# Altium schematic symbol library WL-SMTW.SchLib: 56 symbols (part 2 of 2)
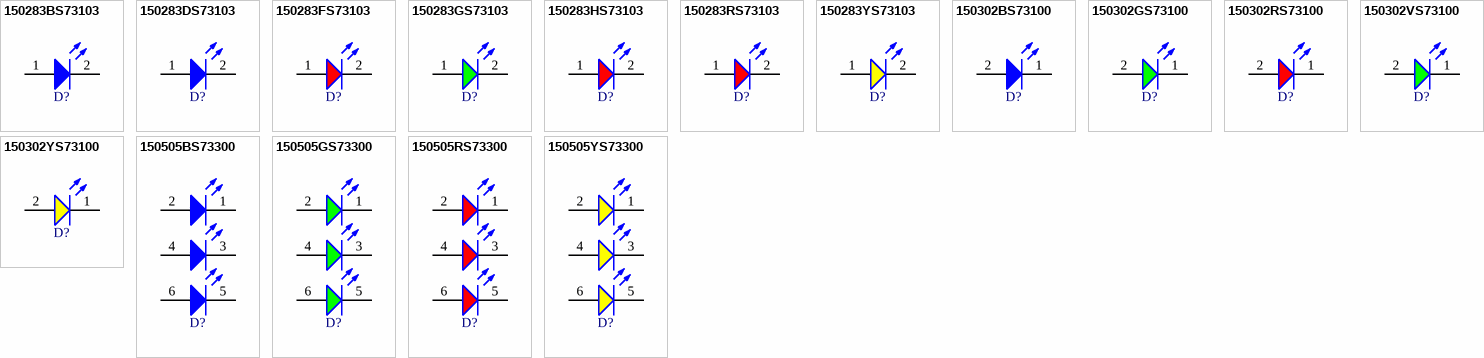
[diagram p2: symbols 150283BS73103 to 150505YS73300]

## 150505GS73300
designator D?, comment Green, 3.1V, 120°  (value not drawn)
WL-SMTW Mono-color TOP LED Waterclear, SMT, size 5050, Green, 3.1V, 120°; Manufacturer Part Number: 150505GS73300; Manufacturer: Wurth Elektronik; Case/Size Code: 5050; Chip Technology: InGaN; Dominant Wavelength: 525nm; Luminous Intensity: 4300mcd; Peak Wavelength: 515nm; Category: Signal LEDs; Match Code: WL-SMTW; ComponentLink1Description: Website Link; ComponentLink1URL: https://www.we-online.com/redexpert/article/150505GS73300?ad; ComponentLink2Description: Datasheet Link; ComponentLink2URL: https://www.we-online.com/redexpert/spec/150505GS73300?ad; Mount: Surface Mount; Operating Temperature Max: 85°C; Operating Temperature Min: -40°C; Packaging: Tape and Reel; Length: 5.4mm; Width: 5mm; Height: 1.6mm; Emitting Color: Green; Forward Voltage: 3.1V; Viewing Angle: 120°
footprint WL-SMTW_5050
simulation model 5050_150505GS73300
pins: 1 K, 2 A, 3 K, 4 A, 5 K, 6 A

## 150505RS73300
designator D?, comment Red, 2V, 120°  (value not drawn)
WL-SMTW Mono-color TOP LED Waterclear, SMT, size 5050, Red, 2V, 120°; Manufacturer Part Number: 150505RS73300; Manufacturer: Wurth Elektronik; Case/Size Code: 5050; Chip Technology: AlInGaP; Dominant Wavelength: 625nm; Luminous Intensity: 2300mcd; Peak Wavelength: 630nm; Category: Signal LEDs; Match Code: WL-SMTW; ComponentLink1Description: Website Link; ComponentLink1URL: https://www.we-online.com/redexpert/article/150505RS73300?ad; ComponentLink2Description: Datasheet Link; ComponentLink2URL: https://www.we-online.com/redexpert/spec/150505RS73300?ad; Mount: Surface Mount; Operating Temperature Max: 85°C; Operating Temperature Min: -40°C; Packaging: Tape and Reel; Length: 5.4mm; Width: 5mm; Height: 1.6mm; Emitting Color: Red; Forward Voltage: 2V; Viewing Angle: 120°
footprint WL-SMTW_5050
simulation model 5050_150505RS73300
pins: 1 K, 2 A, 3 K, 4 A, 5 K, 6 A

## 150505YS73300
designator D?, comment Yellow, 2V, 120°  (value not drawn)
WL-SMTW Mono-color TOP LED Waterclear, SMT, size 5050, Yellow, 2V, 120°; Manufacturer Part Number: 150505YS73300; Manufacturer: Wurth Elektronik; Case/Size Code: 5050; Chip Technology: AlInGaP; Dominant Wavelength: 590nm; Luminous Intensity: 2400mcd; Peak Wavelength: 592nm; Category: Signal LEDs; Match Code: WL-SMTW; ComponentLink1Description: Website Link; ComponentLink1URL: https://www.we-online.com/redexpert/article/150505YS73300?ad; ComponentLink2Description: Datasheet Link; ComponentLink2URL: https://www.we-online.com/redexpert/spec/150505YS73300?ad; Mount: Surface Mount; Operating Temperature Max: 85°C; Operating Temperature Min: -40°C; Packaging: Tape and Reel; Length: 5.4mm; Width: 5mm; Height: 1.6mm; Emitting Color: Yellow; Forward Voltage: 2V; Viewing Angle: 120°
footprint WL-SMTW_5050
simulation model 5050_150505YS73300
pins: 1 K, 2 A, 3 K, 4 A, 5 K, 6 A